# Altium schematic symbol library CAP_100th.SchLib: 1 symbol
Pins are listed as number, name and electrical type; pins without a type are passive.

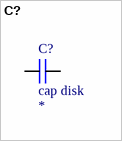
[diagram p0: symbol C?]

## C?
designator C?, comment cap disk
Value: *
footprint cap100
pins: 1, 2